# Altium schematic symbol library ABM8-40.SCHLIB: 1 symbol
Pins are listed as number, name and electrical type; pins without a type are passive.

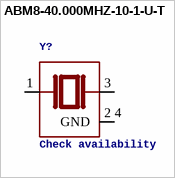
[diagram p0: symbol ABM8-40.000MHZ-10-1-U-T]

## ABM8-40.000MHZ-10-1-U-T
designator Y?, comment Check availability
GateName_1: G$1; SymbolName_1: ABM8-40.000MHZ-10-1-U-T; MF: Abracon; Description: 40 MHz ±10ppm Crystal 10pF 35 Ohms 4-SMD, No Lead; LibraryName: ABM8-40.000MHZ-10-1-U-T; DeviceSetName: ABM8-40.000MHZ-10-1-U-T; Price: None; Availability: In Stock; Purchase-URL: https://pricing.snapeda.com/search/part/ABM8-40.000MHZ-10-1-U-T/?ref=eda; Package: SMD-4 Abracon; MP: ABM8-40.000MHZ-10-1-U-T
footprint XTAL_ABM8-40.000MHZ-10-1-U-T
pins: 1, 2 4 GND (power), 3 2